# Altium footprint library 243-4xx-Suiveur-IR-7.PcbLib: 5 footprints
Each footprint in its own frame and in the unit in brackets; x right, y up, seen from the top. Pads: shape width x height; smd on the part's side, far side on the other; paste and mask are expansions set on the pad; w line width, h text height; cw(c..) or ccw(c..) is an arc to the next point about the centre after c.
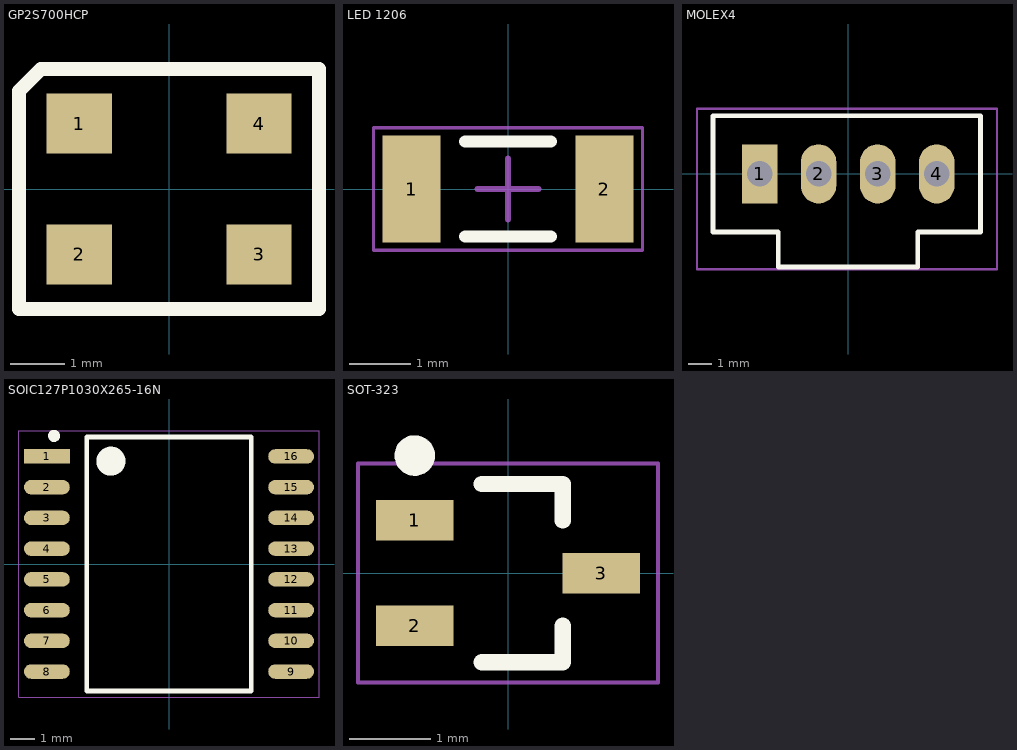
[diagram p0: the footprints below, top view; thin cyan lines are the x and y axes]

## GP2S700HCP [mm]
pads (4):
  rect 1.2x1.1 smd: 1(-1.65,1.2) 2(-1.65,-1.2) 3(1.65,-1.2) 4(1.65,1.2)
Top Overlay:
  lines w0.254: -2.75,-2.2 -2.75,1.8 -2.35,2.2 2.75,2.2 2.75,-2.2 -2.75,-2.2
Top Courtyard:
  lines w0.1: -2.753,-2.199 -2.753,1.801 -2.353,2.201 2.747,2.201 2.747,-2.199 -2.753,-2.199
3D body "GP2S700HCP--3D.STEP": height 2, standoff 0, extent -2,-1.475 2,1.525

## LED 1206 [mm]
pads (2):
  rect 0.95x1.75 smd: 1(-1.575,0) 2(1.575,0)
Top Overlay:
  lines w0.2: -0.7,-0.775 0.7,-0.775 ; -0.7,0.775 0.7,0.775
Top Courtyard:
  lines w0.05: -2.2,-1 2.2,-1 2.2,1 -2.2,1 -2.2,-1
Mechanical 15:
  lines w0.1: -0.5,0 0.5,0 ; 0,-0.5 0,0.5
3D body "User Library-LED 1206 RED.STEP": height 1.1, standoff 0, extent -1.6,-0.8 1.6,0.8

## MOLEX4 [mm]
pads (4):
  rect 1.524x2.54 hole 1.1: 1(-3.81,0)
  oval 1.524x2.54 hole 1.1: 2(-1.27,0) 3(1.27,0) 4(3.81,0)
Top Overlay:
  lines w0.203: -5.81,-2.5 -3.01,-2.5 -3.01,-4 2.99,-4 2.99,-2.5 5.69,-2.5 5.69,2.5 -5.81,2.5 -5.81,-2.5
Mechanical 1:
  lines w0.1: -5.81,-2.5 -5.81,2.5 5.69,2.5 5.69,-2.5 2.99,-2.5 2.99,-4 -3.01,-4 -3.01,-2.5 -5.81,-2.5
Top Courtyard:
  lines w0.1: -6.5,-4.1 -6.5,2.8 6.4,2.8 6.4,-4.1 -6.5,-4.1
3D body "705430108-MOLEX4.stp": height 11.81, standoff -3.3, extent -6.385,-3.927 6.315,2.677

## SOIC127P1030X265-16N [mm] "SOIC, 16-Leads, Body 10,30x7,50mm, Pitch 1,27mm, IPC Medium Density"
height 2.65
pads (16):
  rect 1.9x0.6 smd: 1(-5.05,4.445)
  oval 1.9x0.6 smd: 2(-5.05,3.175) 3(-5.05,1.905) 4(-5.05,0.635) 5(-5.05,-0.635) 6(-5.05,-1.905) 7(-5.05,-3.175) 8(-5.05,-4.445) 9(5.05,-4.445) 10(5.05,-3.175) 11(5.05,-1.905) 12(5.05,-0.635) 13(5.05,0.635) 14(5.05,1.905) 15(5.05,3.175) 16(5.05,4.445)
Top Overlay:
  circle w0.6: c-2.4,4.25 r0.3
  circle w0.25: c-4.75,5.295 r0.125
  lines w0.2: -3.4,-5.25 3.4,-5.25 3.4,5.25 -3.4,5.25 -3.4,-5.25
Top Courtyard:
  lines w0.05: -6.2,-5.5 -6.2,5.5 6.2,5.5 6.2,-5.5 -6.2,-5.5
3D body "User Library-SOIC16_Wide_JEDEC_MS-013AA.STEP": height 2.62, standoff -0.03, extent -5.315,-5.25 5.315,5.25

## SOT-323 [mm] "SOT23, 3-Leads, Body 2,00x2,28mm, Pitch 0,65mm, IPC Medium Density"
height 1.1
pads (3):
  rect 0.95x0.5 smd: 1(-1.15,0.65) 2(-1.15,-0.65) 3(1.15,0)
Top Overlay:
  circle w0.25: c-1.15,1.45 r0.125
  lines w0.2: -0.325,-1.1 0.675,-1.1 0.675,-0.65 ; -0.325,1.1 0.675,1.1 0.675,0.65
Top Courtyard:
  lines w0.05: -1.85,-1.35 -1.85,1.35 1.85,1.35 1.85,-1.35 -1.85,-1.35
3D body "User Library-SOT-323.STEP": height 0.9, standoff 0, extent -1.025,-1.05 1.075,1.05